# Altium footprint library SignalMisc.PcbLib: 2 footprints
Each footprint in its own frame and in the unit in brackets; x right, y up, seen from the top. Pads: shape width x height; smd on the part's side, far side on the other; paste and mask are expansions set on the pad; w line width, h text height; cw(c..) or ccw(c..) is an arc to the next point about the centre after c.
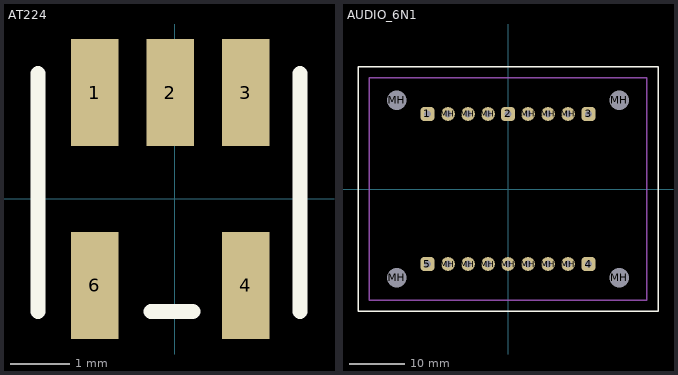
[diagram p0: the footprints below, top view; thin cyan lines are the x and y axes]

## AT224 [mm] "Case style: AT224"
height 3.81
pads (5):
  rect 0.8x1.8 smd: 1(-1.35,1.78) 2(-0.08,1.78) 3(1.19,1.78) 4(1.19,-1.46) 6(-1.35,-1.46)
Top Overlay:
  lines w0.254: -2.3,-1.9 -2.3,2.1 ; -0.4,-1.9 0.3,-1.9 ; 2.1,-1.9 2.1,2.1
3D body "User Library-FluxBalun.step": height 3.55, standoff 0, extent -1.97,-2.015 1.77,2.215

## AUDIO_6N1 [mm]
height 41
pads (22):
  rrect50% 2.5x2.5 hole 1.2: 1(-14.5,13.5) 2(0,13.5) 3(14.5,13.5) 4(14.5,-13.5) 5(-14.5,-13.5)
  round 3 hole 3.5 unplated mask+1.8: MH(-20,-16) MH(-20,16) MH(20,-16) MH(20,16)
  round 2.5 hole 1.2: MH(-10.8,-13.5) MH(-10.8,13.5) MH(-7.2,-13.5) MH(-7.2,13.5) MH(-3.6,-13.5) MH(-3.6,13.5) MH(0,-13.5) MH(3.6,-13.5) MH(3.6,13.5) MH(7.2,-13.5) MH(7.2,13.5) MH(10.8,-13.5) MH(10.8,13.5)
Top Overlay:
  lines w0.254: -27,-22 27,-22 27,22 -27,22 -27,-22
Mechanical 1:
  lines w0.254: -25,-20 -25,20 0,20 25,20 25,-20 -25,-20
3D body: height 41, standoff 4, extent -25,-20 25,20